# EAGLE library part UCC21521DW (library UCC21521DW)
4-A, 6-A, 5.7-kVRMS Isolated Dual-Channel Gate Driver with Enable Source: Datasheet <http://www.ti.com/lit/gpn/ucc21521>
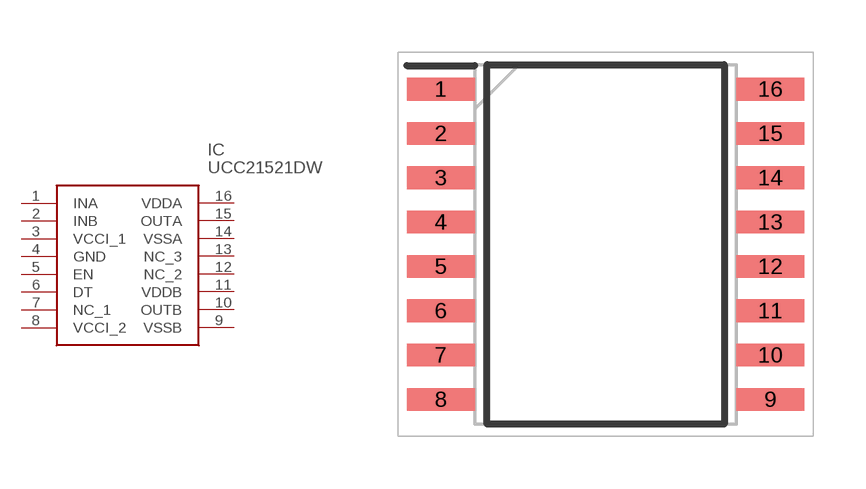
[diagram p0: symbol with the pads of SOIC127P1030X265-16N; footprint SOIC127P1030X265-16N]

Designator prefix IC

## UCC21521DW (Arrow_Part_Number: UCC21521DW; Arrow_Price-Stock: https://www.arrow.com/en/products/ucc21521dw/texas-instruments?region=nac; Description: 4-A, 6-A, 5.7-kVRMS Isolated Dual-Channel Gate Driver with Enable; Height: 2.65mm; Manufacturer_Name: Texas Instruments; Manufacturer_Part_Number: UCC21521DW; Mouser_Part_Number: 595-UCC21521DW; Mouser_Price-Stock: https://www.mouser.co.uk/ProductDetail/Texas-Instruments/UCC21521DW?qs=8N88piwwHEh1S1VLrhQOJw%3D%3D)  [SOIC127P1030X265-16N]
1  INA
2  INB
3  VCCI_1
4  GND
5  EN
6  DT
7  NC_1
8  VCCI_2
9  VSSB
10  OUTB
11  VDDB
12  NC_2
13  NC_3
14  VSSA
15  OUTA
16  VDDA

## Footprint SOIC127P1030X265-16N (pad centres in mm)
DW0016B
smd 1.95 x 0.65: 1 -4.725,4.445; 2 -4.725,3.175; 3 -4.725,1.905; 4 -4.725,0.635; 5 -4.725,-0.635; 6 -4.725,-1.905; 7 -4.725,-3.175; 8 -4.725,-4.445; 9 4.725,-4.445; 10 4.725,-3.175; 11 4.725,-1.905; 12 4.725,-0.635; 13 4.725,0.635; 14 4.725,1.905; 15 4.725,3.175; 16 4.725,4.445